# Altium footprint library Fuse.PcbLib: 2 footprints
Each footprint in its own frame and in the unit in brackets; x right, y up, seen from the top. Pads: shape width x height; smd on the part's side, far side on the other; paste and mask are expansions set on the pad; w line width, h text height; cw(c..) or ccw(c..) is an arc to the next point about the centre after c.
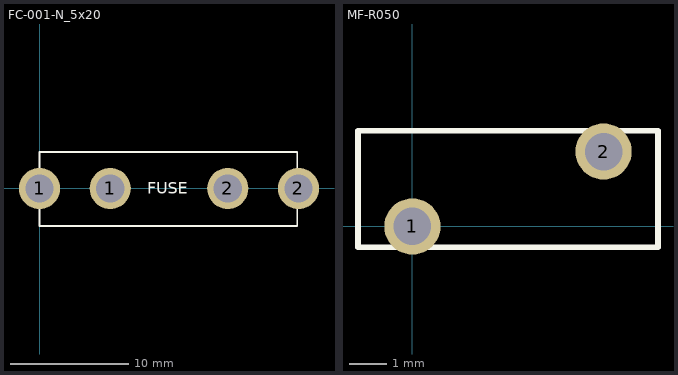
[diagram p0: the footprints below, top view; thin cyan lines are the x and y axes]

## FC-001-N_5x20 [mm]
pads (4):
  round 3.5 hole 2.4 unplated: 1(0,0) 1(6,0) 2(16,0) 2(22,0)
Top Overlay:
  lines w0.15: 0,-3.2 21.9,-3.2 21.9,3.1 0,3.1 0,-3.2
  text "FUSE" at 9.15,-0.45 h1
3D body: height 3.8, standoff -3.8, extent 21.75,-0.75 22.25,1.25
3D body: height 3.8, standoff -3.8, extent 15.75,-0.75 16.25,1.25
3D body: height 3.8, standoff -3.8, extent 5.75,-1 6.25,1
3D body: height 3.8, standoff -3.8, extent -0.25,-1 0.25,1
3D body: height 10.2, standoff 0, extent 0,-3.2 6,3.1
3D body: height 10.2, standoff 0, extent 15.9,-3.2 21.9,3.1
3D body: height 7.5, standoff 2.5, extent 6,-2.5 15.9,2.5

## MF-R050 [mm]
pads (2):
  round 1.5 hole 1 unplated: 1(0,0) 2(5.1,2)
Top Overlay:
  lines w0.15: -1.45,-0.55 6.55,-0.55 6.55,2.55 -1.45,2.55 -1.45,-0.55
3D body: height 1.5, standoff -1.5, extent 4.85,1.75 5.35,2.25
3D body: height 1.5, standoff -1.5, extent -0.25,-0.25 0.25,0.25
3D body: height 8, standoff 0, extent -1.5,-0.55 6.5,2.55